# Altium footprint library PersonalAltiumLibrary.PcbLib: 23 footprints (part 2 of 2)
Each footprint in its own frame and in the unit in brackets; x right, y up, seen from the top. Pads: shape width x height; smd on the part's side, far side on the other; paste and mask are expansions set on the pad; w line width, h text height; cw(c..) or ccw(c..) is an arc to the next point about the centre after c.
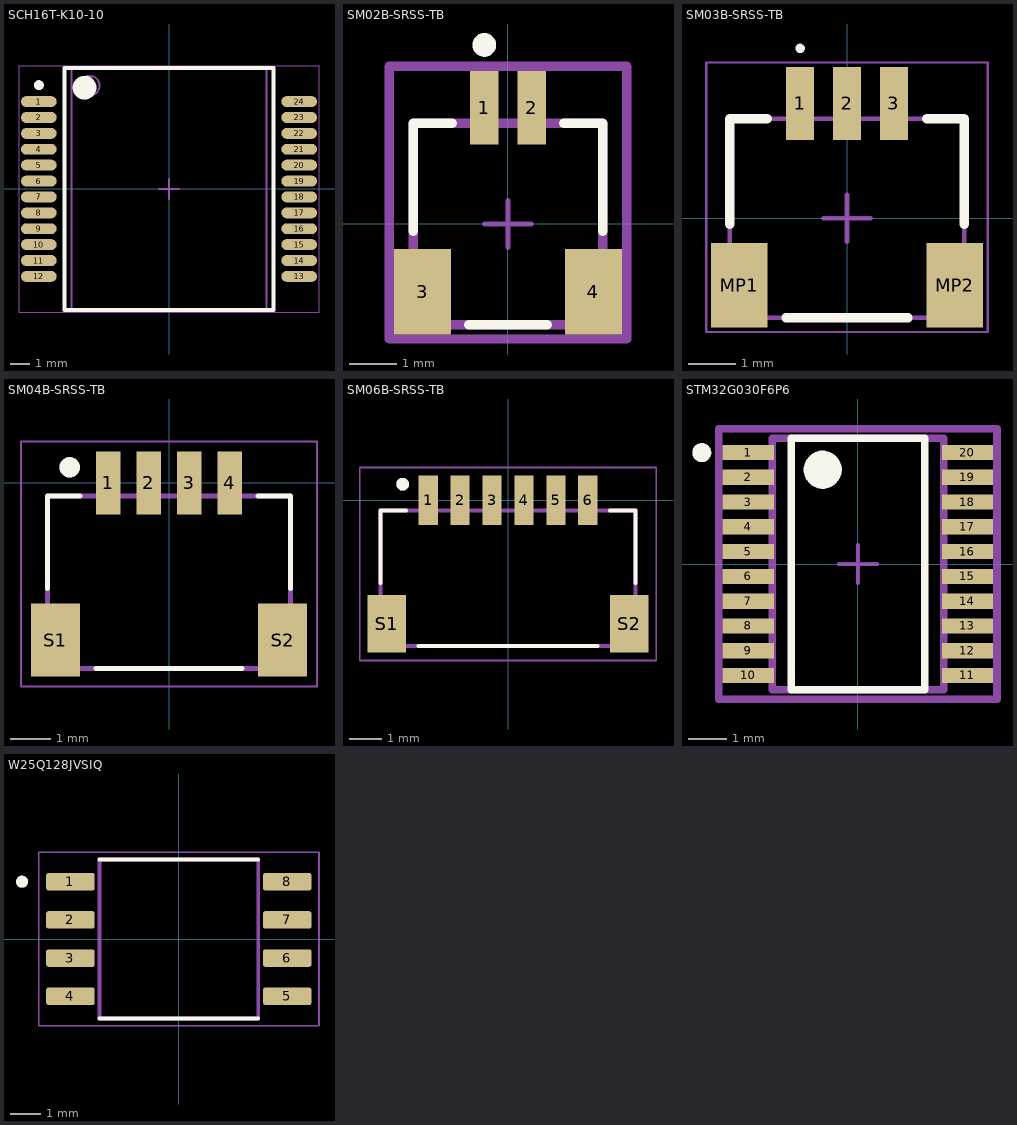
[diagram p1: the footprints below, top view; thin cyan lines are the x and y axes]

## SCH16T-K10-10 [mm] "SOP, 24-Leads, Body 11.80x9.80mm, Pitch 0.80mm, IPC High Density"
height 3
pads (24):
  oval 1.8x0.55 smd: 1(-6.55,4.4) 2(-6.55,3.6) 3(-6.55,2.8) 4(-6.55,2) 5(-6.55,1.2) 6(-6.55,0.4) 7(-6.55,-0.4) 8(-6.55,-1.2) 9(-6.55,-2) 10(-6.55,-2.8) 11(-6.55,-3.6) 12(-6.55,-4.4) 13(6.55,-4.4) 14(6.55,-3.6) 15(6.55,-2.8) 16(6.55,-2) 17(6.55,-1.2) 18(6.55,-0.4) 19(6.55,0.4) 20(6.55,1.2) 21(6.55,2) 22(6.55,2.8) 23(6.55,3.6) 24(6.55,4.4)
Top Overlay:
  circle w0.25: c-6.55,5.225 r0.125
  circle w0.6: c-4.25,5.1 r0.3
  lines w0.2: -5.25,-6.1 -5.25,6.1 5.25,6.1 5.25,-6.1 -5.25,-6.1
Top Courtyard:
  lines w0.05: -7.55,-6.2 -7.55,6.2 7.55,6.2 7.55,-6.2 -7.55,-6.2
  lines w0.1: -0.5,0 0.5,0 ; 0,-0.5 0,0.5
Top Assembly:
  circle w0.1: c-4,5.2 r0.5
  lines w0.1: -4.9,-6.1 -4.9,6.1 4.9,6.1 4.9,-6.1 -4.9,-6.1
3D body "SCH16T-K10-10--3DModel-STEP-510211.STEP": height 3, standoff 0, extent -6.7,-5.9 6.7,5.9

## SM02B-SRSS-TB [mm]
pads (4):
  rect 0.6x1.55 smd paste+0 mask+0: 1(-0.5,2.45) 2(0.5,2.45)
  rect 1.2x1.8 smd paste+0 mask+0: 3(-1.8,-1.425) 4(1.8,-1.425)
Top Overlay:
  circle w0.25: c-0.5,3.775 r0.125
  lines w0.2: -2,-0.15 -2,2.125 -1.175,2.125 ; -0.825,-2.125 0.825,-2.125 ; 1.175,2.125 2,2.125 2,-0.15
Top 3D Body:
  lines w0.2: -2,-2.125 -2,2.125 2,2.125 2,-2.125 -2,-2.125
Top Courtyard:
  lines w0.2: -2.5,-2.425 -2.5,3.325 2.5,3.325 2.5,-2.425 -2.5,-2.425
Top Assembly:
  lines w0.2: -2.5,-2.425 -2.5,3.325 2.5,3.325 2.5,-2.425 -2.5,-2.425
  text ".Designator" at 0,0.639 h1
Top Component Center:
  lines w0.1: -0.5,0 0.5,0 ; 0,-0.5 0,0.5
3D body "Conn_JST_SM02B-SRSS-TB_LF_SN_eec.STEP": height 0.25, standoff 0, extent -2.5,-2.425 2.5,3.325

## SM03B-SRSS-TB [mm] "SMD, 3-Leads, Body 5x4.25mm, Pitch 1mm"
height 2.9
pads (5):
  rect 0.6x1.55 smd: 1(-1,2.45) 2(0,2.45) 3(1,2.45)
  rect 1.2x1.8 smd: MP1(-2.3,-1.425) MP2(2.3,-1.425)
Top Overlay:
  circle w0.1: c-1,3.625 r0.05
  lines w0.2: -2.5,-0.125 -2.5,2.125 -1.7,2.125 ; -1.3,-2.125 1.3,-2.125 ; 1.7,2.125 2.5,2.125 2.5,-0.125
Mechanical 13:
  lines w0.1: -2.5,-2.125 2.5,-2.125 2.5,2.125 -2.5,2.125 -2.5,-2.125
Mechanical 15:
  lines w0.05: -3,-2.425 3,-2.425 3,3.325 -3,3.325 -3,-2.425
  lines w0.1: -0.5,0 0.5,0 ; 0,-0.5 0,0.5
3D body "SM03B-SRSS.stp": height 2.96, standoff 0, extent -2.5,-2.125 2.5,2.825

## SM04B-SRSS-TB [mm]
pads (6):
  rect 0.6x1.55 smd: 1(-1.5,0) 2(-0.5,0) 3(0.5,0) 4(1.5,0)
  rect 1.2x1.8 smd: S1(-2.8,-3.875) S2(2.8,-3.875)
Top Overlay:
  circle w0.3: c-2.45,0.385 r0.1
  lines w0.127: -3,-2.6 -3,-0.325 -2.2,-0.325 ; -1.8,-4.575 1.8,-4.575 ; 2.2,-0.325 3,-0.325 3,-2.6
Mechanical 13:
  circle w0.3: c-2.45,0.385 r0.1
  lines w0.127: -3,-4.575 3,-4.575 3,-0.325 -3,-0.325 -3,-4.575
Mechanical 15:
  lines w0.05: -3.65,-5.025 3.65,-5.025 3.65,1.025 -3.65,1.025 -3.65,-5.025
3D body "step_temp.STEP": height 2.96, standoff 0, extent -3,-4.53 3,0.419

## SM06B-SRSS-TB [mm]
pads (8):
  rect 0.6x1.55 smd: 1(-2.5,0) 2(-1.5,0) 3(-0.5,0) 4(0.5,0) 5(1.5,0) 6(2.5,0)
  rect 1.2x1.8 smd: S1(-3.8,-3.875) S2(3.8,-3.875)
Top Overlay:
  circle w0.2: c-3.3,0.5 r0.1
  lines w0.127: -4,-2.6 -4,-0.325 -3.2,-0.325 ; -2.8,-4.575 2.8,-4.575 ; 3.2,-0.325 4,-0.325 4,-2.6
Mechanical 13:
  circle w0.2: c-3.3,0.5 r0.1
  lines w0.127: -4,-4.575 4,-4.575 4,-0.325 -4,-0.325 -4,-4.575
Mechanical 15:
  lines w0.05: -4.65,-5.025 4.65,-5.025 4.65,1.025 -4.65,1.025 -4.65,-5.025
3D body "step_temp.STEP": height 2.95, standoff 0, extent -4,-4.507 4,0.443

## STM32G030F6P6 [mm]
pads (20):
  rect 1.35x0.4 smd paste+0 mask+0: 1(-2.875,2.925) 2(-2.875,2.275) 3(-2.875,1.625) 4(-2.875,0.975) 5(-2.875,0.325) 6(-2.875,-0.325) 7(-2.875,-0.975) 8(-2.875,-1.625) 9(-2.875,-2.275) 10(-2.875,-2.925) 11(2.875,-2.925) 12(2.875,-2.275) 13(2.875,-1.625) 14(2.875,-0.975) 15(2.875,-0.325) 16(2.875,0.325) 17(2.875,0.975) 18(2.875,1.625) 19(2.875,2.275) 20(2.875,2.925)
Top Overlay:
  circle w0.25: c-4.1,2.925 r0.125
  circle w0.5: c-0.925,2.475 r0.25
  lines w0.2: -1.75,-3.3 1.75,-3.3 1.75,3.3 -1.75,3.3 -1.75,-3.3
Top 3D Body:
  lines w0.2: -2.25,-3.3 2.25,-3.3 2.25,3.3 -2.25,3.3 -2.25,-3.3
Top Courtyard:
  lines w0.2: -3.65,-3.55 3.65,-3.55 3.65,3.55 -3.65,3.55 -3.65,-3.55
Top Assembly:
  lines w0.2: -3.65,-3.55 3.65,-3.55 3.65,3.55 -3.65,3.55 -3.65,-3.55
  text ".Designator" at 0,0.189 h1
Top Component Center:
  lines w0.1: -0.5,0 0.5,0 ; 0,-0.5 0,0.5
3D body "IC_STMicroelectronics_STM32G030F6P6_eec.STEP": height 0.25, standoff 0, extent -3.65,-3.55 3.65,3.55

## W25Q128JVSIQ [mm]
height 2.16
pads (8):
  rrect25% 1.61x0.58 smd: 1(-3.605,1.905) 2(-3.605,0.635) 3(-3.605,-0.635) 4(-3.605,-1.905) 5(3.605,-1.905) 6(3.605,-0.635) 7(3.605,0.635) 8(3.605,1.905)
Top Overlay:
  circle w0.2: c-5.215,1.905 r0.1
  lines w0.127: -2.64,-2.64 2.64,-2.64 ; -2.64,2.64 2.64,2.64
Mechanical 13:
  circle w0.2: c-5.215,1.905 r0.1
  lines w0.127: -2.64,-2.64 2.64,-2.64 2.64,2.64 -2.64,2.64 -2.64,-2.64
Mechanical 15:
  lines w0.05: -4.66,-2.89 4.66,-2.89 4.66,2.89 -4.66,2.89 -4.66,-2.89
3D body "step_temp.STEP": height 2.16, standoff 0, extent -3.95,-2.64 3.95,2.64